# EAGLE library part MS5611 (library NA-2025)
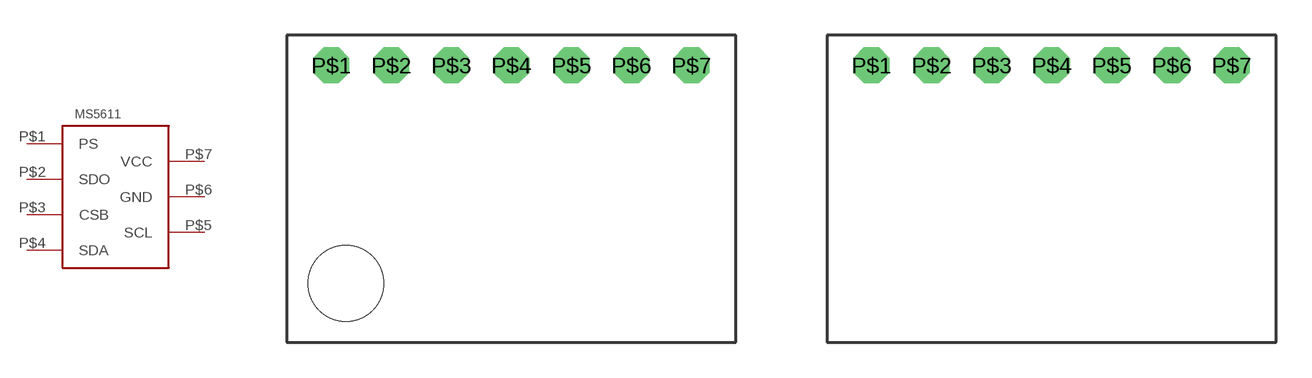
[diagram p24: symbol with the pads of MS5611; footprints MS5611, MS5611-PINS-ONLY]

Designator prefix -

## MS5611  [MS5611]
P$1  PS
P$2  SDO
P$3  CSB
P$4  SDA
P$5  SCL
P$6  GND
P$7  VCC

## MS5611MS5611-PIN-ONLY  [MS5611-PINS-ONLY]
Pads as for MS5611

## Footprint MS5611 (pad centres in mm)
drill 1.016 octagon: P$1 -7.62,5.23; P$2 -5.08,5.23; P$3 -2.54,5.23; P$4 0,5.23; P$5 2.54,5.23; P$6 5.08,5.23; P$7 7.62,5.23
hole 3.2 at -7,-4

## Footprint MS5611-PINS-ONLY (pad centres in mm)
drill 1.016 octagon: P$1 -7.62,5.23; P$2 -5.08,5.23; P$3 -2.54,5.23; P$4 0,5.23; P$5 2.54,5.23; P$6 5.08,5.23; P$7 7.62,5.23